# Altium footprint library CYPCBLIB.PcbLib: 185 footprints (part 12 of 12)
Each footprint in its own frame and in the unit in brackets; x right, y up, seen from the top. Pads: shape width x height; smd on the part's side, far side on the other; paste and mask are expansions set on the pad; w line width, h text height; cw(c..) or ccw(c..) is an arc to the next point about the centre after c.
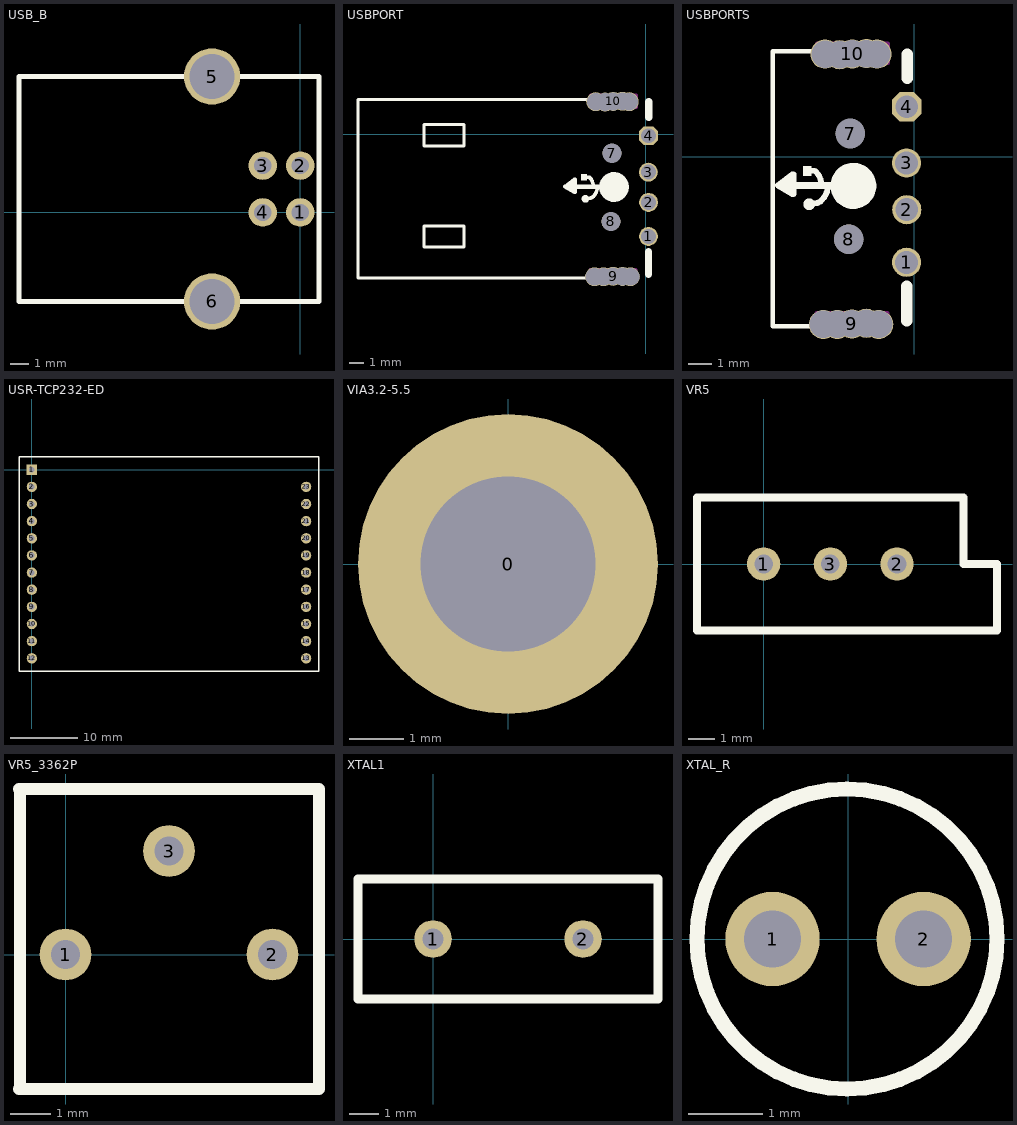
[diagram p11: the footprints below, top view; thin cyan lines are the x and y axes]

## USB_B [mm]
pads (6):
  round 1.524 hole 0.92: 1(0,0) 2(0,2.5) 3(-2,2.5) 4(-2,0)
  round 3 hole 2.4: 5(-4.7,7.25) 6(-4.7,-4.75)
TopOverlay:
  lines w0.254: -15,-4.75 1,-4.75 1,7.25 -15,7.25 -15,-4.75

## USBPORT [mm]
pads (16):
  round 1.27 hole 1: 1(0.172,-6.882) 2(0.178,-4.588) 3(0.166,-2.551)
  oct 1.27x1.27 hole 1: 4(0.178,-0.099)
  round 1.27 hole 1.3: 7(-2.286,-1.27) 8(-2.354,-5.874)
  round 1.27 hole 1.2: 9(-2.215,-9.566) 10(-2.201,2.207) ""(-3.459,-9.591) ""(-3.383,2.194) ""(-2.85,-9.591) ""(-2.748,2.169) ""(-1.58,2.22) ""(-1.575,-9.576) ""(-1.123,2.194) ""(-1.046,-9.591)
TopOverlay:
  circle w1: c-2.153,-3.551 r0.5
  circle w0.254: c-4.075,-4.313 r0
  circle w0.254: c-4.075,-4.351 r0.127
  region: -3.974,-2.688 -4.355,-2.688 -4.355,-3.119 -3.974,-3.119
  lines w0.2: -1.386,-9.673 -19.386,-9.673 -19.386,2.327 -1.386,2.327 ; -14.95,-7.585 -14.95,-6.162 -12.257,-6.162 -12.257,-7.585 -14.95,-7.585 ; -14.95,-0.778 -12.257,-0.778 -12.257,0.645 -14.95,0.645 -14.95,-0.778
  lines w0.254: -5.396,-3.526 -5.345,-3.526 ; -4.863,-3.373 -4.939,-3.323 -4.837,-3.805 ; -4.812,-3.907 -5.447,-3.526 -4.812,-3.043 ; -4.761,-3.907 -4.761,-3.526 -4.761,-3.043 ; -4.075,-4.313 -3.863,-4.313 ccw(c-3.863,-3.846) -3.532,-4.176 ccw(c-4.182,-3.526) -3.263,-3.526 ; -4.046,-2.891 -3.847,-2.891 ; -3.793,-2.919 cw(c-4.4,-3.526) -3.542,-3.526 ; -2.17,-3.526 -2.145,-3.551
  lines w0.3: -5.396,-3.526 -2.17,-3.526
  lines w0.5: 0.175,-9.422 0.175,-7.923 ; 0.201,1.145 0.201,2.186
KeepOutLayer:
  lines w0.2: -3.748,-9.134 -3.748,-9.947 -0.675,-9.947 -0.675,-9.134 ; -3.748,-9.109 -0.675,-9.109 ; -3.723,2.626 -3.723,1.813 -0.65,1.813 -0.65,2.626 ; -3.723,2.651 -0.65,2.651

## USBPORTS [mm]
pads (16):
  round 1.27 hole 1: 1(-0.336,-4.596) 2(-0.33,-2.302) 3(-0.342,-0.265)
  oct 1.27x1.27 hole 1: 4(-0.33,2.187)
  round 1.27 hole 1.3: 7(-2.794,1.016) 8(-2.862,-3.588)
  round 1.27 hole 1.2: 9(-2.723,-7.28) 10(-2.709,4.493) ""(-3.967,-7.305) ""(-3.891,4.48) ""(-3.358,-7.305) ""(-3.256,4.455) ""(-2.088,-7.255) ""(-2.088,4.506) ""(-1.631,4.48) ""(-1.554,-7.305)
TopOverlay:
  circle w1: c-2.661,-1.265 r0.5
  circle w0.254: c-4.583,-2.027 r0
  circle w0.254: c-4.583,-2.065 r0.127
  region: -4.482,-0.402 -4.863,-0.402 -4.863,-0.833 -4.482,-0.833
  lines w0.2: -1.894,-7.387 -6.178,-7.387 -6.178,4.613 -1.894,4.613
  lines w0.254: -5.904,-1.24 -5.853,-1.24 ; -5.371,-1.087 -5.447,-1.037 -5.345,-1.519 ; -5.32,-1.621 -5.955,-1.24 -5.32,-0.757 ; -5.269,-1.621 -5.269,-1.24 -5.269,-0.757 ; -4.583,-2.027 -4.371,-2.027 ccw(c-4.371,-1.56) -4.04,-1.89 ccw(c-4.69,-1.24) -3.771,-1.24 ; -4.554,-0.605 -4.355,-0.605 ; -4.301,-0.633 cw(c-4.908,-1.24) -4.05,-1.24 ; -2.678,-1.24 -2.653,-1.265
  lines w0.3: -5.904,-1.24 -2.678,-1.24
  lines w0.5: -0.333,-7.136 -0.333,-5.637 ; -0.307,3.431 -0.307,4.472
KeepOutLayer:
  lines w0.2: -4.256,-6.848 -4.256,-7.661 -1.183,-7.661 -1.183,-6.848 ; -4.256,-6.823 -1.183,-6.823 ; -4.231,4.912 -4.231,4.099 -1.158,4.099 -1.158,4.912 ; -4.231,4.937 -1.158,4.937

## USR-TCP232-ED [mil]
height 47.24
pads (23):
  rect 60x60 hole 32: 1(0,0)
  round 60 hole 32: 2(0,-100) 3(0,-200) 4(0,-300) 5(0,-400) 6(0,-500) 7(0,-600) 8(0,-700) 9(0,-800) 10(0,-900) 11(0,-1000) 12(0,-1100) 13(1600,-1100) 14(1600,-1000) 15(1600,-900) 16(1600,-800) 17(1600,-700) 18(1600,-600) 19(1600,-500) 20(1600,-400) 21(1600,-300) 22(1600,-200) 23(1600,-100)
TopOverlay:
  lines w8: -75,-1175 1675,-1175 1675,75 -75,75 -75,-1175

## VIA3.2-5.5 [mm]
pads (1):
  round 5.5 hole 3.2: 0(0,0)

## VR5 [mil]
pads (3):
  round 50 hole 28: 1(0,0) 2(200,0) 3(100,0)
TopOverlay:
  lines w12: -100,-100 350,-100 350,0 300,0 300,100 -100,100 -100,-100

## VR5_3362P [mil]
pads (3):
  round 50 hole 28: 1(0,0) 2(200,0) 3(100,100)
TopOverlay:
  lines w12: -45,-130 245,-130 245,160 -45,160 ; -44,-130 -44,160

## XTAL1 [mil]
pads (2):
  round 50 hole 28: 1(0,0) 2(200,0)
TopOverlay:
  lines w12: -100,-80 -100,80 300,80 300,-80 -100,-80

## XTAL_R [mil]
pads (2):
  round 50 hole 30: 1(-40,0) 2(40,0)
TopOverlay:
  circle w8: c-0.55,0 r79.45